# EAGLE library part INTEL_MKR_EXP_P2 (library IntelMKR_ExpP)
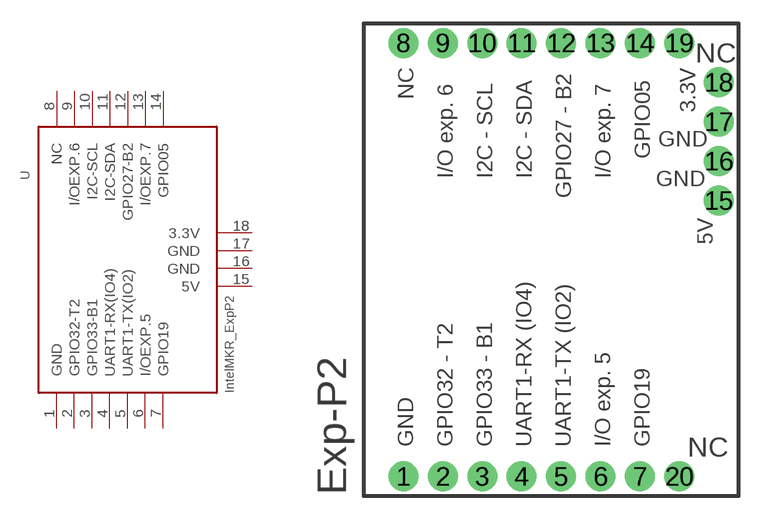
[diagram p1: symbol with the pads of INTEL_MKR_EXP_P2; footprint INTEL_MKR_EXP_P2]

Designator prefix -

## INTEL_MKR_EXP_P2  [INTEL_MKR_EXP_P2]
1  GND  pwr
2  GPIO32-T2
3  GPIO33-B1
4  UART1-RX(IO4)
5  UART1-TX(IO2)
6  I/OEXP.5
7  GPIO19
8  NC  nc
9  I/OEXP.6
10  I2C-SCL
11  I2C-SDA
12  GPIO27-B2
13  I/OEXP.7
14  GPIO05
15  5V  pwr
16  GND  pwr
17  GND  pwr
18  3.3V  pwr

## Footprint INTEL_MKR_EXP_P2 (pad centres in mm)
drill 1 pad 1.93: 1 5.08,-13.97; 2 7.62,-13.97; 3 10.16,-13.97; 4 12.7,-13.97; 5 15.24,-13.97; 6 17.78,-13.97; 7 20.32,-13.97; 8 5.08,13.97; 9 7.62,13.97; 10 10.16,13.97; 11 12.7,13.97; 12 15.24,13.97; 13 17.78,13.97; 14 20.32,13.97; 15 25.4,3.81; 16 25.4,6.35; 17 25.4,8.89; 18 25.4,11.43; 19 22.86,13.97; 20 22.86,-13.97